# Altium footprint library ALTAIR_PD_Pogo.PcbLib: 7 footprints
Each footprint in its own frame and in the unit in brackets; x right, y up, seen from the top. Pads: shape width x height; smd on the part's side, far side on the other; paste and mask are expansions set on the pad; w line width, h text height; cw(c..) or ccw(c..) is an arc to the next point about the centre after c.
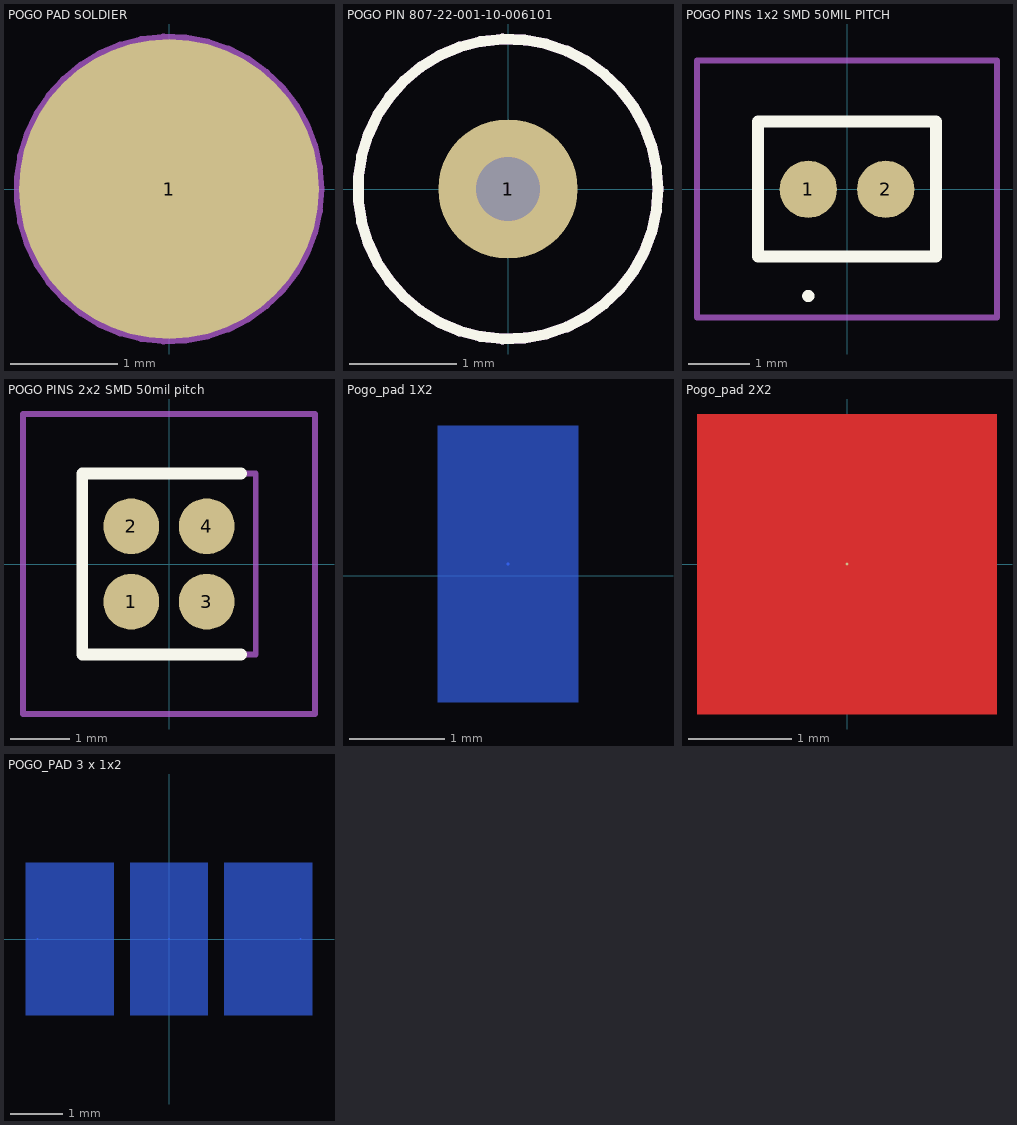
[diagram p0: the footprints below, top view; thin cyan lines are the x and y axes]

## POGO PAD SOLDIER [mm]
pads (1):
  round 2.8 smd: 1(0,0)
Mechanical 1:
  circle w0.1: c0,0 r1.4

## POGO PIN 807-22-001-10-006101 [mm] "Mill-Max 807-22-001-10-006101 Insulated Discrete Pogo Pin 5.99mm init height 2.79mm diameter"
pads (1):
  round 1.3 hole 0.6: 1(0,0)
Top Overlay:
  circle w0.1: c0,0 r1.4
Mechanical 1:
  circle w0.1: c0,0 r1.4
3D body "mill-max-807-XX-XXX-10-006101.STEP": height 5.99, standoff -1.75, extent -1.395,-1.394 1.395,1.394

## POGO PINS 1x2 SMD 50MIL PITCH [mm] "8542200230004101"
pads (2):
  round 0.94 smd: 1(-0.635,0) 2(0.635,0)
Top Overlay:
  lines w0.1: -0.635,-1.8 cw(c-0.635,-1.75) -0.635,-1.7 cw(c-0.635,-1.75) -0.635,-1.8
  lines w0.2: -1.46,-1.1 -1.46,1.11 1.46,1.11 1.46,-1.1 -1.46,-1.1
Mechanical 13:
  lines w0.1: -1.46,-1.1 -1.46,1.11 1.46,1.11 1.46,-1.1 -1.46,-1.1
Mechanical 15:
  lines w0.1: -2.46,-2.1 -2.46,2.11 2.46,2.11 2.46,-2.1 -2.46,-2.1
3D body "mill-max-854-22-002-30-004101.STEP": height 4.22, standoff 0.01, extent -1.46,-1.1 1.461,1.11

## POGO PINS 2x2 SMD 50mil pitch [mm] "Mill-Max 855-22-004-30-004101"
pads (4):
  round 0.94 smd: 1(-0.635,-0.635) 2(-0.635,0.635) 3(0.635,-0.635) 4(0.635,0.635)
Top Overlay:
  lines w0.2: 1.211,-1.525 -1.46,-1.525 -1.46,1.525 1.211,1.525
Mechanical 13:
  lines w0.1: -1.46,-1.525 1.46,-1.525 1.46,1.525 -1.46,1.525 -1.46,-1.525
Mechanical 15:
  lines w0.1: -2.46,-2.525 2.46,-2.525 2.46,2.525 -2.46,2.525 -2.46,-2.525
3D body "mill-max-855-22-004-30-004101.STEP": height 4.2, standoff -0.01, extent -1.461,-1.524 1.46,1.524

## Pogo_pad 1X2 [mil] "Legacy footprint from the old way of defining the Soldier signal/guard nets."
pads (1):
  round 1 smd far side: ""(107.28,4.92)
Bottom Layer:
  region: 78.25,-52.17 78.25,62.01 136.32,62.01 136.32,-52.17
Top Solder:
  rectangle: 73.82,-57.09 140.75,66.93

## Pogo_pad 2X2 [mil] "Created by turning the 1x2 footprint into a square. Electrically there is only one pad for all the pins."
pads (1):
  round 1 smd: 1(0,0)
Top Layer:
  region: 57.09,-57.09 57.09,57.09 -57.09,57.09 -57.09,-57.09

## POGO_PAD 3 x 1x2 [mil] "Pad corresponding to array of three 1x2 pin components. TODO: Check if the pogo pins have been fit-tested. The solder layer polygon on Sgt seems too narrow."
pads (3):
  round 1 smd far side: 1(0,0) 2(-98.43,0) 3(98.43,0)
Bottom Layer:
  region: -29.04,-57.09 -29.04,57.09 29.04,57.09 29.04,-57.09
  region: -107.28,-57.09 -107.28,57.09 -41.34,57.09 -41.34,-57.09
  region: 107.28,57.09 107.28,-57.09 41.34,-57.09 41.34,57.09
Top Solder:
  rectangle: -112.2,-62.01 112.2,62.01